# Altium footprint library Opto.PcbLib: 23 footprints (part 2 of 2)
Each footprint in its own frame and in the unit in brackets; x right, y up, seen from the top. Pads: shape width x height; smd on the part's side, far side on the other; paste and mask are expansions set on the pad; w line width, h text height; cw(c..) or ccw(c..) is an arc to the next point about the centre after c.
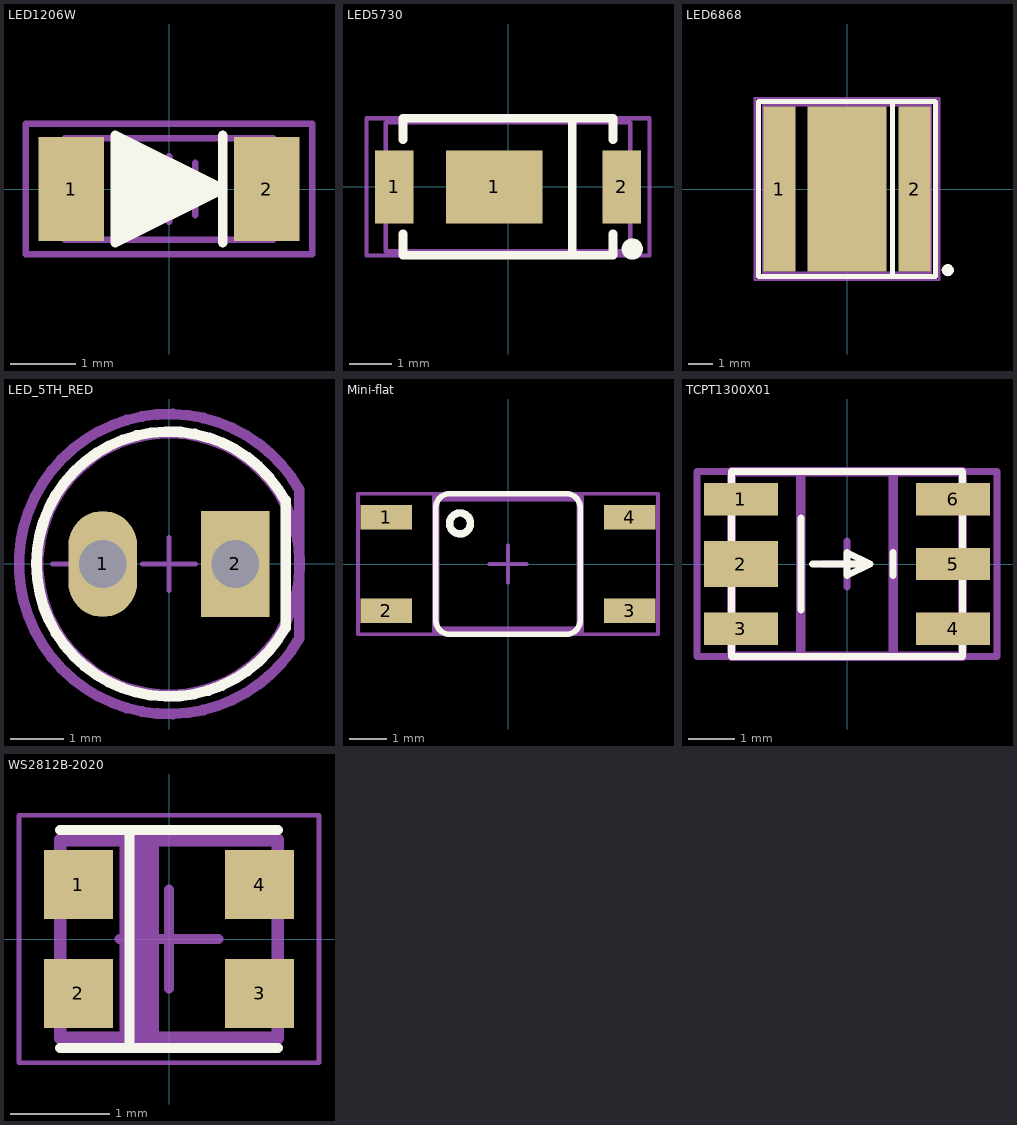
[diagram p1: the footprints below, top view; thin cyan lines are the x and y axes]

## LED1206W [mm]
height 0.6
pads (2):
  rect 1x1.6 smd: 1(-1.5,0) 2(1.5,0)
Top Overlay:
  region: -0.825,-0.825 -0.825,0.825 0.825,0
  lines w0.15: 0.825,-0.825 0.825,0.825 ; -0.825,-0.825 -0.825,0.825 0.825,0 -0.825,-0.825
Top Assembly (Mech3):
  lines w0.1: 0.4,-0.4 0.4,0.4 ; -1.6,-0.775 1.6,-0.775 1.6,0.775 -1.6,0.775 -1.6,-0.775 ; -0.4,-0.4 0.4,0 -0.4,0.4 -0.4,-0.4
Top Courtyard:
  lines w0.1: -0.5,0 0.5,0 ; 0,-0.5 0,0.5 ; -2.2,-1 -2.2,1 2.2,1 2.2,-1 -2.2,-1
3D body "User Library-FYLS-1206.step": height 1.1, standoff 0, extent -1.6,-0.8 1.6,0.8

## LED5730 [mm]
pads (4):
  rect 0.9x1.7 smd: 1(-2.65,0) 2(2.65,0)
  rect 2.25x1.7 smd: 1(-0.32,0)
  round 0.5 on Top Overlay: ""(2.9,-1.45)
Top Overlay:
  lines w0.2: -2.45,-1.1 -2.45,-1.6 0,-1.6 2.45,-1.6 2.45,-1.1 ; -2.45,1.1 -2.45,1.6 0,1.6 2.45,1.6 2.45,1.1 ; 1.5,-1.6 1.5,1.6
Top Assembly (Mech3):
  lines w0.1: 0.4,-0.4 0.4,0.4 ; -2.85,-1.5 -2.85,1.5 2.85,1.5 2.85,-1.5 -2.85,-1.5 ; -0.4,-0.4 -0.4,0.4 0.4,0 -0.4,-0.4
Top Courtyard:
  lines w0.1: -0.3,0 0.3,0 ; 0,-0.3 0,0.3 ; -3.3,-1.6 3.3,-1.6 3.3,1.6 -3.3,1.6 -3.3,-1.6
3D body "LED 5730.stp": height 0.84, standoff 0.04, extent -2.85,-1.5 2.85,1.5

## LED6868 [mm]
pads (4):
  rect 1.3x6.7 smd: 1(-2.75,0) 2(2.75,0)
  rect 3.2x6.7 smd: ""(0,0)
  round 0.5 on Top Overlay: ""(4.1,-3.3)
Top Overlay:
  lines w0.2: 1.85,-3.55 1.85,3.5 ; -3.6,-3.55 -3.6,3.55 3.6,3.55 3.6,-3.55 -3.6,-3.55
Top Assembly (Mech3):
  lines w0.1: 0.4,-0.4 0.4,0.4 ; -3.4,-3.4 3.4,-3.4 3.4,3.4 -3.4,3.4 -3.4,-3.4 ; -0.4,-0.4 -0.4,0.4 0.4,0 -0.4,-0.4
Top Courtyard:
  lines w0.1: -0.3,0 0.3,0 ; 0,-0.3 0,0.3 ; -3.75,-3.7 -3.75,3.7 3.75,3.7 3.75,-3.7 -3.75,-3.7
3D body "6666.STEP": height 1.55, standoff 0, extent -3.4,-3.4 3.4,3.4

## LED_5TH_RED [mm] "5mm round Led, red"
height 12
pads (2):
  oval 1.3x2 hole 0.9: 1(-1.25,0)
  rect 1.3x2 hole 0.9: 2(1.25,0)
Top Overlay:
  lines w0.2: 2.195,-1.197 cw(c0,0) 2.2,1.187 ; 2.2,-1.2 2.2,1.2
Top Assembly (Mech3):
  circle w0.2: c0,0 r2.468
  lines w0.1: -2.2,0 -1.2,0 ; -1.7,-0.5 -1.7,0.5
  lines w0.2: 2.46,-1.4 cw(c0,0) 2.46,1.4 2.46,-1.4
Top Courtyard:
  lines w0.1: -0.5,0 0.5,0 ; 0,-0.5 0,0.5
  lines w0.2: 2.46,-1.4 cw(c0,0) 2.46,1.4 2.46,-1.4
3D body "ALSRobot-LED Red 5mm.STEP": height 12.31, standoff -2.49, extent -2.96,-3.01 2.46,3.01

## Mini-flat [mm] "Mini-flat optocoupler"
height 2.2
pads (4):
  rect 1.4x0.66 smd: 1(-3.3,1.27) 2(-3.3,-1.27) 3(3.3,-1.27) 4(3.3,1.27)
Top Overlay:
  circle w0.2: c-1.3,1.1 r0.283
  lines w0.152: -1.956,-1.524 ccw(c-1.575,-1.524) -1.575,-1.905 1.575,-1.905 ccw(c1.575,-1.524) 1.956,-1.524 1.956,1.524 ccw(c1.575,1.524) 1.575,1.905 0.508,1.905 -0.508,1.905 -1.575,1.905 ccw(c-1.575,1.524) -1.956,1.524 -1.956,-1.524
Top Assembly (Mech3):
  circle w0.2: c-1.3,1.1 r0.283
  lines w0.2: -1.956,-1.8 -1.956,1.8 1.956,1.8 1.956,-1.8 -1.956,-1.8
Top Courtyard:
  lines w0.1: -0.508,0 0.508,0 ; 0,-0.508 0,0.508 ; -4.064,-1.9 4.064,-1.9 4.064,1.9 -4.064,1.9 -4.064,-1.9
3D body "User Library-HCPL-181-1.STEP": height 2.1, standoff 0, extent -3.5,-1.8 3.5,1.8

## TCPT1300X01 [mm] "Photointerrupter smd"
height 4
pads (6):
  rect 1.6x0.7 smd: 1(-2.3,1.4) 3(-2.3,-1.4) 4(2.3,-1.4) 5(2.3,0) 6(2.3,1.4)
  rect 1.6x1 smd: 2(-2.3,0)
Top Layer:
  region: 0,0
Top Overlay:
  lines w0.15: -1,-1 -1,1 ; -0.75,0 0.5,0 ; 1,-0.25 1,0.25 ; 0.5,0 0,0.25 0,-0.25 0.5,0 ; -2.5,-2 2.5,-2 2.5,2 -2.5,2 -2.5,-2
Top Assembly (Mech3):
  circle w0.2: c-1.9,1.4 r0.2
  lines w0.2: -1,-2 -1,2 ; 1,-2 1,2 ; -2.5,-2 2.5,-2 2.5,2 -2.5,2 -2.5,-2
Top Courtyard:
  lines w0.15: -0.5,0 0.5,0 ; 0,-0.5 0,0.5 ; -3.25,-2 3.25,-2 3.25,2 -3.25,2 -3.25,-2
3D body "TCPT1300X01.stp": height 4, standoff 0, extent -2.5,-2 2.5,2

## WS2812B-2020 [mm]
height 0.84
pads (4):
  rect 0.7x0.7 smd: 1(-0.915,0.55) 2(-0.915,-0.55) 3(0.915,-0.55) 4(0.915,0.55)
Top Overlay:
  lines w0.1: -1.1,-1.1 1.1,-1.1 ; -1.1,1.1 1.1,1.1 ; -0.4,-1.1 -0.4,1.1
Top Assembly (Mech3):
  circle w0.2: c-0.8,0.6 r0.1
  rectangle: -0.5,-1 -0.1,1
  lines w0.127: -1.1,-1 1.1,-1 1.1,1 -1.1,1 -1.1,-1
Top Courtyard:
  lines w0.05: -1.515,-1.25 1.515,-1.25 1.515,1.25 -1.515,1.25 -1.515,-1.25
  lines w0.1: -0.5,0 0.5,0 ; 0,-0.5 0,0.5
3D body "step_temp.STEP": height 0.84, standoff 0, extent -1.1,-1 1.1,1